# EAGLE library part SSM-110-L-DV (library edrtech_lib)
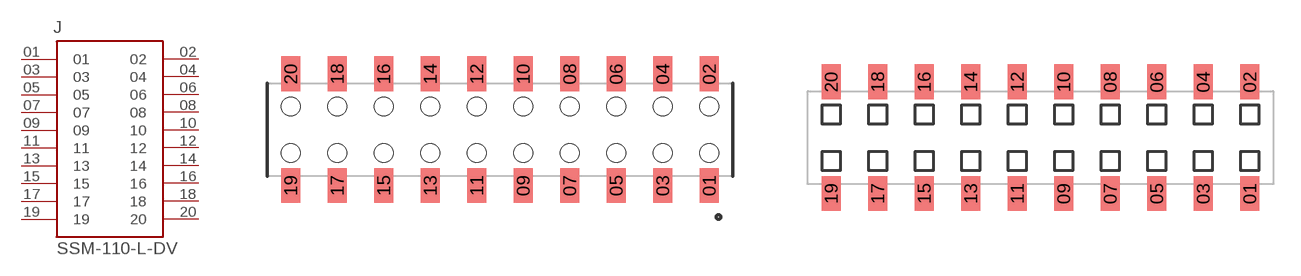
[diagram p36: symbol with the pads of SAMTEC_SSM-110-L-DV-BE; footprints SAMTEC_SSM-110-L-DV-BE, SAMTEC_SSM-110-L-DV]

Designator prefix J

## SSM-110-L-DV (MANUFACTURER: SAMTEC)  [SAMTEC_SSM-110-L-DV-BE]
01  01  pas
02  02  pas
03  03  pas
04  04  pas
05  05  pas
06  06  pas
07  07  pas
08  08  pas
09  09  pas
10  10  pas
11  11  pas
12  12  pas
13  13  pas
14  14  pas
15  15  pas
16  16  pas
17  17  pas
18  18  pas
19  19  pas
20  20  pas

## SSM-110-L-DVBE  [SAMTEC_SSM-110-L-DV]
Pads as for SAMTEC_SSM-110-L-DV-BE

## Footprint SAMTEC_SSM-110-L-DV-BE (pad centres in mm)
smd 1.02 x 1.905: 01 11.43,-3.047; 02 11.43,3.047; 03 8.89,-3.047; 04 8.89,3.047; 05 6.35,-3.047; 06 6.35,3.047; 07 3.81,-3.047; 08 3.81,3.047; 09 1.27,-3.047; 10 1.27,3.047; 11 -1.27,-3.047; 12 -1.27,3.047; 13 -3.81,-3.047; 14 -3.81,3.047; 15 -6.35,-3.047; 16 -6.35,3.047; 17 -8.89,-3.047; 18 -8.89,3.047; 19 -11.43,-3.047; 20 -11.43,3.047
hole 1.02 at 11.43,1.27
hole 1.02 at 11.43,-1.27
hole 1.02 at 8.89,1.27
hole 1.02 at 8.89,-1.27
hole 1.02 at 6.35,1.27
hole 1.02 at 6.35,-1.27
hole 1.02 at 3.81,1.27
hole 1.02 at 3.81,-1.27
hole 1.02 at 1.27,1.27
hole 1.02 at 1.27,-1.27
hole 1.02 at -1.27,1.27
hole 1.02 at -1.27,-1.27
hole 1.02 at -3.81,1.27
hole 1.02 at -3.81,-1.27
hole 1.02 at -6.35,1.27
hole 1.02 at -6.35,-1.27
hole 1.02 at -8.89,1.27
hole 1.02 at -8.89,-1.27
hole 1.02 at -11.43,1.27
hole 1.02 at -11.43,-1.27

## Footprint SAMTEC_SSM-110-L-DV (pad centres in mm)
smd 1.02 x 1.905: 01 11.43,-3.047; 02 11.43,3.047; 03 8.89,-3.047; 04 8.89,3.047; 05 6.35,-3.047; 06 6.35,3.047; 07 3.81,-3.047; 08 3.81,3.047; 09 1.27,-3.047; 10 1.27,3.047; 11 -1.27,-3.047; 12 -1.27,3.047; 13 -3.81,-3.047; 14 -3.81,3.047; 15 -6.35,-3.047; 16 -6.35,3.047; 17 -8.89,-3.047; 18 -8.89,3.047; 19 -11.43,-3.047; 20 -11.43,3.047